# Altium footprint library Bs8116a SSOP-20.PcbLib: 4 footprints
Each footprint in its own frame and in the unit in brackets; x right, y up, seen from the top. Pads: shape width x height; smd on the part's side, far side on the other; paste and mask are expansions set on the pad; w line width, h text height; cw(c..) or ccw(c..) is an arc to the next point about the centre after c.
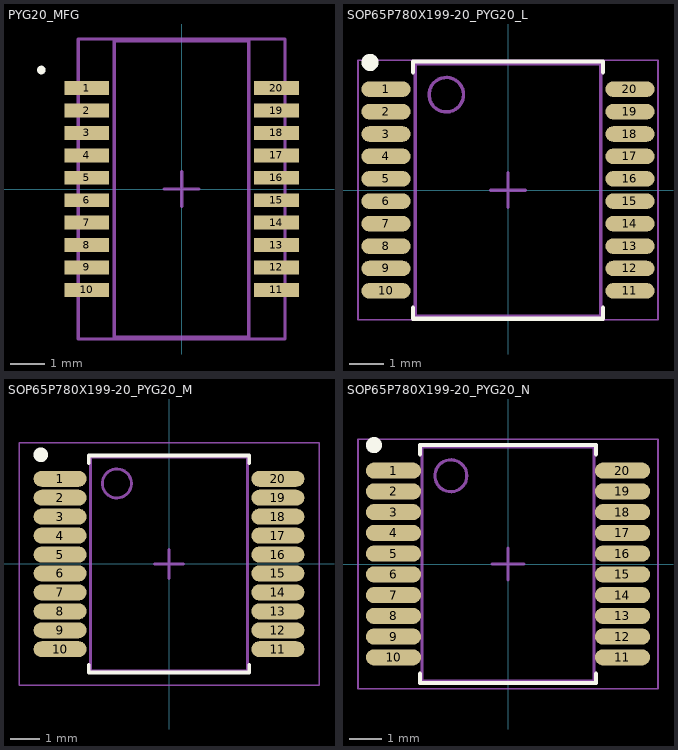
[diagram p0: the footprints below, top view; thin cyan lines are the x and y axes]

## PYG20_MFG [mm] "Recommended Land Pattern"
height 1.99
pads (20):
  rect 1.3x0.4 smd paste+0 mask+0: 1(-2.75,2.925) 2(-2.75,2.275) 3(-2.75,1.625) 4(-2.75,0.975) 5(-2.75,0.325) 6(-2.75,-0.325) 7(-2.75,-0.975) 8(-2.75,-1.625) 9(-2.75,-2.275) 10(-2.75,-2.925) 11(2.75,-2.925) 12(2.75,-2.275) 13(2.75,-1.625) 14(2.75,-0.975) 15(2.75,-0.325) 16(2.75,0.325) 17(2.75,0.975) 18(2.75,1.625) 19(2.75,2.275) 20(2.75,2.925)
Top Overlay:
  circle w0.125: c-4.065,3.45 r0.062
Top Designator:
Top Courtyard:
  lines w0.1: -3,-4.35 3,-4.35 3,4.35 -3,4.35 -3,-4.35
Top Component Center (Mech17):
  lines w0.1: -0.5,0 0.5,0 ; 0,-0.5 0,0.5 ; -1.95,-4.3 1.95,-4.3 1.95,4.3 -1.95,4.3 -1.95,-4.3

## SOP65P780X199-20_PYG20_L [mm] "SOP, 20-Leads, Body 7.20x5.29mm, Pitch 0.65mm, IPC High Density"
height 1.99
pads (20):
  rrect100% 1.425x0.45 smd: 1(-3.538,2.925) 2(-3.538,2.275) 3(-3.538,1.625) 4(-3.538,0.975) 5(-3.538,0.325) 6(-3.538,-0.325) 7(-3.538,-0.975) 8(-3.538,-1.625) 9(-3.538,-2.275) 10(-3.538,-2.925) 11(3.537,-2.925) 12(3.537,-2.275) 13(3.537,-1.625) 14(3.537,-0.975) 15(3.537,-0.325) 16(3.537,0.325) 17(3.537,0.975) 18(3.537,1.625) 19(3.537,2.275) 20(3.537,2.925)
Top Overlay:
  circle w0.25: c-4,3.7 r0.125
  lines w0.127: -2.754,-3.413 -2.754,-3.728 2.753,-3.728 2.753,-3.413 ; -2.754,3.414 -2.754,3.729 2.753,3.729 2.753,3.414
Top Assembly:
  circle w0.1: c-1.79,2.765 r0.5
  lines w0.1: -2.69,-3.665 2.69,-3.665 2.69,3.665 -2.69,3.665 -2.69,-3.665
Top Designator:
  text ".Designator" at 0,0.011 h0.84
Top Courtyard:
  lines w0.05: -4.35,-3.765 4.35,-3.765 4.35,3.765 -4.35,3.765 -4.35,-3.765
Top Component Center (Mech17):
  lines w0.1: -0.5,0 0.5,0 ; 0,-0.5 0,0.5
3D body "SOP65P780X199-20_PYG20.STEP": height 1.99, standoff 0, extent -3.89,-3.6 3.89,3.6

## SOP65P780X199-20_PYG20_M [mm] "SOP, 20-Leads, Body 7.20x5.29mm, Pitch 0.65mm, IPC Low Density"
height 1.99
pads (20):
  rrect100% 1.825x0.55 smd: 1(-3.738,2.925) 2(-3.738,2.275) 3(-3.738,1.625) 4(-3.738,0.975) 5(-3.738,0.325) 6(-3.738,-0.325) 7(-3.738,-0.975) 8(-3.738,-1.625) 9(-3.738,-2.275) 10(-3.738,-2.925) 11(3.737,-2.925) 12(3.737,-2.275) 13(3.737,-1.625) 14(3.737,-0.975) 15(3.737,-0.325) 16(3.737,0.325) 17(3.737,0.975) 18(3.737,1.625) 19(3.737,2.275) 20(3.737,2.925)
Top Overlay:
  circle w0.25: c-4.4,3.75 r0.125
  lines w0.127: -2.753,-3.463 -2.753,-3.728 2.753,-3.728 2.753,-3.463 ; -2.753,3.464 -2.753,3.729 2.753,3.729 2.753,3.464
Top Assembly:
  circle w0.1: c-1.79,2.765 r0.5
  lines w0.1: -2.69,-3.665 2.69,-3.665 2.69,3.665 -2.69,3.665 -2.69,-3.665
Top Designator:
  text ".Designator" at 0,0.011 h0.84
Top Courtyard:
  lines w0.05: -5.15,-4.165 5.15,-4.165 5.15,4.165 -5.15,4.165 -5.15,-4.165
Top Component Center (Mech17):
  lines w0.1: -0.5,0 0.5,0 ; 0,-0.5 0,0.5
3D body "SOP65P780X199-20_PYG20.STEP": height 1.99, standoff 0, extent -3.89,-3.6 3.89,3.6

## SOP65P780X199-20_PYG20_N [mm] "SOP, 20-Leads, Body 7.20x5.29mm, Pitch 0.65mm, IPC Medium Density"
height 1.99
pads (20):
  rrect100% 1.725x0.5 smd: 1(-3.588,2.925) 2(-3.588,2.275) 3(-3.588,1.625) 4(-3.588,0.975) 5(-3.588,0.325) 6(-3.588,-0.325) 7(-3.588,-0.975) 8(-3.588,-1.625) 9(-3.588,-2.275) 10(-3.588,-2.925) 11(3.587,-2.925) 12(3.587,-2.275) 13(3.587,-1.625) 14(3.587,-0.975) 15(3.587,-0.325) 16(3.587,0.325) 17(3.587,0.975) 18(3.587,1.625) 19(3.587,2.275) 20(3.587,2.925)
Top Overlay:
  circle w0.25: c-4.2,3.725 r0.125
  lines w0.127: -2.754,-3.439 -2.754,-3.728 2.753,-3.728 2.753,-3.439 ; -2.754,3.438 -2.754,3.729 2.753,3.729 2.753,3.438
Top Assembly:
  circle w0.1: c-1.79,2.765 r0.5
  lines w0.1: -2.69,-3.665 2.69,-3.665 2.69,3.665 -2.69,3.665 -2.69,-3.665
Top Designator:
  text ".Designator" at 0,0.011 h0.84
Top Courtyard:
  lines w0.05: -4.7,-3.915 4.7,-3.915 4.7,3.915 -4.7,3.915 -4.7,-3.915
Top Component Center (Mech17):
  lines w0.1: -0.5,0 0.5,0 ; 0,-0.5 0,0.5
3D body "SOP65P780X199-20_PYG20.STEP": height 1.99, standoff 0, extent -3.89,-3.6 3.89,3.6